# Altium schematic symbol library sht31_connector_schematic.SchLib: 1 symbol
Pins are listed as number, name and electrical type; pins without a type are passive.

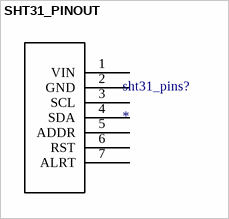
[diagram p0: symbol SHT31_PINOUT]

## SHT31_PINOUT
designator sht31_pins?
footprint PCBComponent_1
footprint sht31_footprint
pins: 1 VIN, 2 GND, 3 SCL, 4 SDA, 5 ADDR, 6 RST, 7 ALRT